# Altium integrated library WE-CBF (rev24a).IntLib: 180 symbols (part 1 of 4)
Pins are listed as number, name and electrical type; pins without a type are passive.

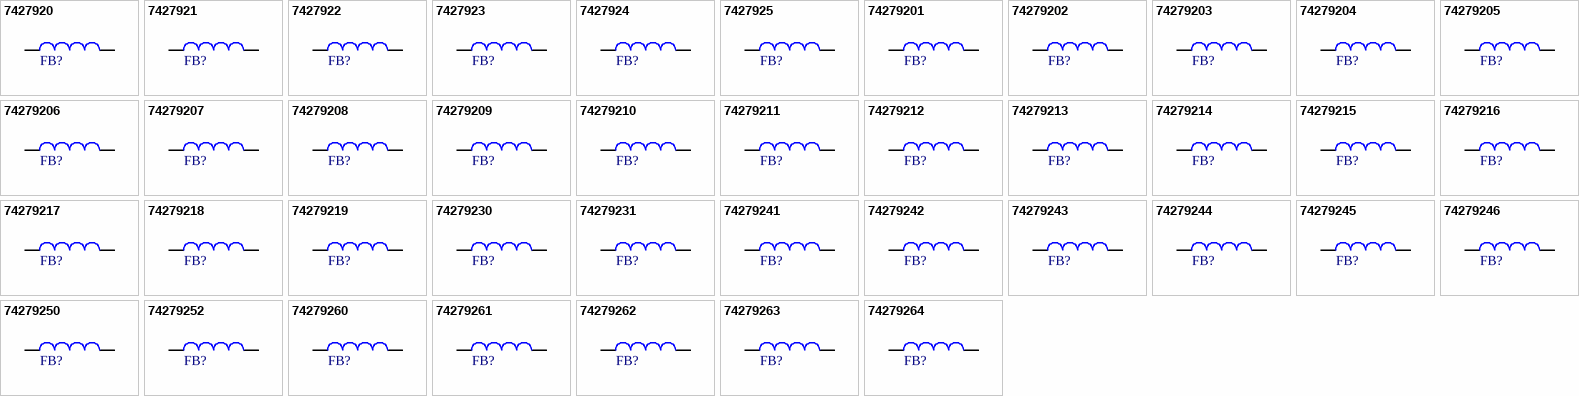
[diagram p0: symbols 7427920 to 74279264]

## 7427920
designator FB?, comment 11Ohm  (value not drawn)
WE-CBF SMT EMI Suppression Ferrite Bead, size 0805, 11Ohm, 9.6A; Manufacturer Part Number: 7427920; Manufacturer: Wurth Elektronik; Case/Size Code: 0805; DC Resistance Max: 0.15Ohm; Impedance Max: 24Ohm; Impedance Max Test Condition: 1000MHz; Type: High Speed; Category: Ferrites for PCB Assembly; Match Code: WE-CBF; ComponentLink1Description: Website Link; ComponentLink1URL: https://www.we-online.com/redexpert/article/7427920?ad; ComponentLink2Description: Datasheet Link; ComponentLink2URL: https://www.we-online.com/redexpert/spec/7427920?ad; Mount: Surface Mount; Operating Temperature Max: 125°C; Operating Temperature Min: -55°C; Packaging: Tape and Reel; Length: 2mm; Width: 1.2mm; Height: 0.9mm; Impedance @100MHz: 11Ohm; Rated Current: 9.6A
footprint WE-CBF_0805_L2W1.2H0.9_HS/WB
simulation model 0805_7427920_11ohm
pins: 1, 2

## 7427921
designator FB?, comment 32Ohm  (value not drawn)
WE-CBF SMT EMI Suppression Ferrite Bead, size 1206, 32Ohm, 8.1A; Manufacturer Part Number: 7427921; Manufacturer: Wurth Elektronik; Case/Size Code: 1206; DC Resistance Max: 0.2Ohm; Impedance Max: 70Ohm; Impedance Max Test Condition: 1000MHz; Type: High Speed; Category: Ferrites for PCB Assembly; Match Code: WE-CBF; ComponentLink1Description: Website Link; ComponentLink1URL: https://www.we-online.com/redexpert/article/7427921?ad; ComponentLink2Description: Datasheet Link; ComponentLink2URL: https://www.we-online.com/redexpert/spec/7427921?ad; Mount: Surface Mount; Operating Temperature Max: 125°C; Operating Temperature Min: -55°C; Packaging: Tape and Reel; Length: 3.2mm; Width: 1.6mm; Height: 1.1mm; Impedance @100MHz: 32Ohm; Rated Current: 8.1A
footprint WE-CBF_1206_L3.2W1.6H1.1_HS/WB
simulation model 1206_7427921_32ohm
pins: 1, 2

## 7427922
designator FB?, comment 60Ohm  (value not drawn)
WE-CBF SMT EMI Suppression Ferrite Bead, size 1206, 60Ohm, 5A; Manufacturer Part Number: 7427922; Manufacturer: Wurth Elektronik; Case/Size Code: 1206; DC Resistance Max: 0.2Ohm; Impedance Max: 120Ohm; Impedance Max Test Condition: 1000MHz; Type: High Speed; Category: Ferrites for PCB Assembly; Match Code: WE-CBF; ComponentLink1Description: Website Link; ComponentLink1URL: https://www.we-online.com/redexpert/article/7427922?ad; ComponentLink2Description: Datasheet Link; ComponentLink2URL: https://www.we-online.com/redexpert/spec/7427922?ad; Mount: Surface Mount; Operating Temperature Max: 125°C; Operating Temperature Min: -55°C; Packaging: Tape and Reel; Length: 3.2mm; Width: 1.6mm; Height: 1.1mm; Impedance @100MHz: 60Ohm; Rated Current: 5A
footprint WE-CBF_1206_L3.2W1.6H1.1_HS/WB
simulation model 1206_7427922_60ohm
pins: 1, 2

## 7427923
designator FB?, comment 90Ohm  (value not drawn)
WE-CBF SMT EMI Suppression Ferrite Bead, size 1210, 90Ohm, 3.4A; Manufacturer Part Number: 7427923; Manufacturer: Wurth Elektronik; Case/Size Code: 1210; DC Resistance Max: 0.3Ohm; Impedance Max: 180Ohm; Impedance Max Test Condition: 1000MHz; Type: High Speed; Category: Ferrites for PCB Assembly; Match Code: WE-CBF; ComponentLink1Description: Website Link; ComponentLink1URL: https://www.we-online.com/redexpert/article/7427923?ad; ComponentLink2Description: Datasheet Link; ComponentLink2URL: https://www.we-online.com/redexpert/spec/7427923?ad; Mount: Surface Mount; Operating Temperature Max: 125°C; Operating Temperature Min: -55°C; Packaging: Tape and Reel; Length: 3.2mm; Width: 2.5mm; Height: 1.3mm; Impedance @100MHz: 90Ohm; Rated Current: 3.4A
footprint WE-CBF_1210_L3.2W2.5H1.3_HS/WB
simulation model 1210_7427923_90ohm
pins: 1, 2

## 7427924
designator FB?, comment 60Ohm  (value not drawn)
WE-CBF SMT EMI Suppression Ferrite Bead, size 1806, 60Ohm, 7.1A; Manufacturer Part Number: 7427924; Manufacturer: Wurth Elektronik; Case/Size Code: 1806; DC Resistance Max: 0.3Ohm; Impedance Max: 130Ohm; Impedance Max Test Condition: 1000MHz; Type: High Speed; Category: Ferrites for PCB Assembly; Match Code: WE-CBF; ComponentLink1Description: Website Link; ComponentLink1URL: https://www.we-online.com/redexpert/article/7427924?ad; ComponentLink2Description: Datasheet Link; ComponentLink2URL: https://www.we-online.com/redexpert/spec/7427924?ad; Mount: Surface Mount; Operating Temperature Max: 125°C; Operating Temperature Min: -55°C; Packaging: Tape and Reel; Length: 4.5mm; Width: 1.6mm; Height: 1.6mm; Impedance @100MHz: 60Ohm; Rated Current: 7.1A
footprint WE-CBF_1806_L4.5W1.6H1.6_HS/WB
simulation model 1806_7427924_60ohm
pins: 1, 2

## 7427925
designator FB?, comment 120Ohm  (value not drawn)
WE-CBF SMT EMI Suppression Ferrite Bead, size 1812, 120Ohm, 6.8A; Manufacturer Part Number: 7427925; Manufacturer: Wurth Elektronik; Case/Size Code: 1812; DC Resistance Max: 0.3Ohm; Impedance Max: 200Ohm; Impedance Max Test Condition: 800MHz; Type: High Speed; Category: Ferrites for PCB Assembly; Match Code: WE-CBF; ComponentLink1Description: Website Link; ComponentLink1URL: https://www.we-online.com/redexpert/article/7427925?ad; ComponentLink2Description: Datasheet Link; ComponentLink2URL: https://www.we-online.com/redexpert/spec/7427925?ad; Mount: Surface Mount; Operating Temperature Max: 125°C; Operating Temperature Min: -55°C; Packaging: Tape and Reel; Length: 4.5mm; Width: 3.2mm; Height: 1.5mm; Impedance @100MHz: 120Ohm; Rated Current: 6.8A
footprint WE-CBF_1812_L4.5W3.2H1.5_HS/WB
simulation model 1812_7427925_120ohm
pins: 1, 2

## 74279201
designator FB?, comment 32Ohm  (value not drawn)
WE-CBF SMT EMI Suppression Ferrite Bead, size 0805, 32Ohm, 2.8A; Manufacturer Part Number: 74279201; Manufacturer: Wurth Elektronik; Case/Size Code: 0805; DC Resistance Max: 0.15Ohm; Impedance Max: 70Ohm; Impedance Max Test Condition: 1000MHz; Type: High Speed; Category: Ferrites for PCB Assembly; Match Code: WE-CBF; ComponentLink1Description: Website Link; ComponentLink1URL: https://www.we-online.com/redexpert/article/74279201?ad; ComponentLink2Description: Datasheet Link; ComponentLink2URL: https://www.we-online.com/redexpert/spec/74279201?ad; Mount: Surface Mount; Operating Temperature Max: 125°C; Operating Temperature Min: -55°C; Packaging: Tape and Reel; Length: 2mm; Width: 1.2mm; Height: 0.9mm; Impedance @100MHz: 32Ohm; Rated Current: 2.8A
footprint WE-CBF_0805_L2W1.2H0.9_HS/WB
simulation model 0805_74279201_32ohm
pins: 1, 2

## 74279202
designator FB?, comment 120Ohm  (value not drawn)
WE-CBF SMT EMI Suppression Ferrite Bead, size 0805, 120Ohm, 3.4A; Manufacturer Part Number: 74279202; Manufacturer: Wurth Elektronik; Case/Size Code: 0805; DC Resistance Max: 0.1Ohm; Impedance Max: 200Ohm; Impedance Max Test Condition: 400MHz; Type: High Speed; Category: Ferrites for PCB Assembly; Match Code: WE-CBF; ComponentLink1Description: Website Link; ComponentLink1URL: https://www.we-online.com/redexpert/article/74279202?ad; ComponentLink2Description: Datasheet Link; ComponentLink2URL: https://www.we-online.com/redexpert/spec/74279202?ad; Mount: Surface Mount; Operating Temperature Max: 125°C; Operating Temperature Min: -55°C; Packaging: Tape and Reel; Length: 2mm; Width: 1.2mm; Height: 0.9mm; Impedance @100MHz: 120Ohm; Rated Current: 3.4A
footprint WE-CBF_0805_L2W1.2H0.9_HS/WB
simulation model 0805_74279202_120ohm
pins: 1, 2

## 74279203
designator FB?, comment 150Ohm  (value not drawn)
WE-CBF SMT EMI Suppression Ferrite Bead, size 0805, 150Ohm, 2.4A; Manufacturer Part Number: 74279203; Manufacturer: Wurth Elektronik; Case/Size Code: 0805; DC Resistance Max: 0.25Ohm; Impedance Max: 250Ohm; Impedance Max Test Condition: 400MHz; Type: High Speed; Category: Ferrites for PCB Assembly; Match Code: WE-CBF; ComponentLink1Description: Website Link; ComponentLink1URL: https://www.we-online.com/redexpert/article/74279203?ad; ComponentLink2Description: Datasheet Link; ComponentLink2URL: https://www.we-online.com/redexpert/spec/74279203?ad; Mount: Surface Mount; Operating Temperature Max: 125°C; Operating Temperature Min: -55°C; Packaging: Tape and Reel; Length: 2mm; Width: 1.2mm; Height: 0.9mm; Impedance @100MHz: 150Ohm; Rated Current: 2.4A
footprint WE-CBF_0805_L2W1.2H0.9_HS/WB
simulation model 0805_74279203_150ohm
pins: 1, 2

## 74279204
designator FB?, comment 600Ohm  (value not drawn)
WE-CBF SMT EMI Suppression Ferrite Bead, size 0805, 600Ohm, 1.5A; Manufacturer Part Number: 74279204; Manufacturer: Wurth Elektronik; Case/Size Code: 0805; DC Resistance Max: 0.35Ohm; Impedance Max: 700Ohm; Impedance Max Test Condition: 150MHz; Type: Wide Band; Category: Ferrites for PCB Assembly; Match Code: WE-CBF; ComponentLink1Description: Website Link; ComponentLink1URL: https://www.we-online.com/redexpert/article/74279204?ad; ComponentLink2Description: Datasheet Link; ComponentLink2URL: https://www.we-online.com/redexpert/spec/74279204?ad; Mount: Surface Mount; Operating Temperature Max: 125°C; Operating Temperature Min: -55°C; Packaging: Tape and Reel; Length: 2mm; Width: 1.2mm; Height: 0.9mm; Impedance @100MHz: 600Ohm; Rated Current: 1.5A
footprint WE-CBF_0805_L2W1.2H0.9_HS/WB
simulation model 0805_74279204_600ohm
pins: 1, 2

## 74279205
designator FB?, comment 1000Ohm  (value not drawn)
WE-CBF SMT EMI Suppression Ferrite Bead, size 0805, 1000Ohm, 0.9A; Manufacturer Part Number: 74279205; Manufacturer: Wurth Elektronik; Case/Size Code: 0805; DC Resistance Max: 0.45Ohm; Impedance Max: 1050Ohm; Impedance Max Test Condition: 150MHz; Type: Wide Band; Category: Ferrites for PCB Assembly; Match Code: WE-CBF; ComponentLink1Description: Website Link; ComponentLink1URL: https://www.we-online.com/redexpert/article/74279205?ad; ComponentLink2Description: Datasheet Link; ComponentLink2URL: https://www.we-online.com/redexpert/spec/74279205?ad; Mount: Surface Mount; Operating Temperature Max: 125°C; Operating Temperature Min: -55°C; Packaging: Tape and Reel; Length: 2mm; Width: 1.2mm; Height: 0.9mm; Impedance @100MHz: 1000Ohm; Rated Current: 0.9A
footprint WE-CBF_0805_L2W1.2H0.9_HS/WB
simulation model 0805_74279205_1000ohm
pins: 1, 2

## 74279206
designator FB?, comment 30Ohm  (value not drawn)
WE-CBF SMT EMI Suppression Ferrite Bead, size 0805, 30Ohm, 3A; Manufacturer Part Number: 74279206; Manufacturer: Wurth Elektronik; Case/Size Code: 0805; DC Resistance Max: 0.025Ohm; Impedance Max: 55Ohm; Impedance Max Test Condition: 1000MHz; Type: High Current; Category: Ferrites for PCB Assembly; Match Code: WE-CBF; ComponentLink1Description: Website Link; ComponentLink1URL: https://www.we-online.com/redexpert/article/74279206?ad; ComponentLink2Description: Datasheet Link; ComponentLink2URL: https://www.we-online.com/redexpert/spec/74279206?ad; Mount: Surface Mount; Operating Temperature Max: 125°C; Operating Temperature Min: -55°C; Packaging: Tape and Reel; Length: 2mm; Width: 1.2mm; Height: 0.9mm; Impedance @100MHz: 30Ohm; Rated Current: 3A
footprint WE-CBF_0805_L2W1.2H0.9_HC
simulation model 0805_74279206_30ohm
pins: 1, 2

## 74279207
designator FB?, comment 100Ohm  (value not drawn)
WE-CBF SMT EMI Suppression Ferrite Bead, size 0805, 100Ohm, 1A; Manufacturer Part Number: 74279207; Manufacturer: Wurth Elektronik; Case/Size Code: 0805; DC Resistance Max: 0.15Ohm; Impedance Max: 140Ohm; Impedance Max Test Condition: 400MHz; Type: High Current; Category: Ferrites for PCB Assembly; Match Code: WE-CBF; ComponentLink1Description: Website Link; ComponentLink1URL: https://www.we-online.com/redexpert/article/74279207?ad; ComponentLink2Description: Datasheet Link; ComponentLink2URL: https://www.we-online.com/redexpert/spec/74279207?ad; Mount: Surface Mount; Operating Temperature Max: 125°C; Operating Temperature Min: -55°C; Packaging: Tape and Reel; Length: 2mm; Width: 1.2mm; Height: 0.9mm; Impedance @100MHz: 100Ohm; Rated Current: 1A
footprint WE-CBF_0805_L2W1.2H0.9_HC
simulation model 0805_74279207_100ohm
pins: 1, 2

## 74279208
designator FB?, comment 40Ohm  (value not drawn)
WE-CBF SMT EMI Suppression Ferrite Bead, size 0805, 40Ohm, 4.55A; Manufacturer Part Number: 74279208; Manufacturer: Wurth Elektronik; Case/Size Code: 0805; DC Resistance Max: 0.15Ohm; Impedance Max: 68Ohm; Impedance Max Test Condition: 1000MHz; Type: High Speed; Category: Ferrites for PCB Assembly; Match Code: WE-CBF; ComponentLink1Description: Website Link; ComponentLink1URL: https://www.we-online.com/redexpert/article/74279208?ad; ComponentLink2Description: Datasheet Link; ComponentLink2URL: https://www.we-online.com/redexpert/spec/74279208?ad; Mount: Surface Mount; Operating Temperature Max: 125°C; Operating Temperature Min: -55°C; Packaging: Tape and Reel; Length: 2mm; Width: 1.2mm; Height: 0.9mm; Impedance @100MHz: 40Ohm; Rated Current: 4.55A
footprint WE-CBF_0805_L2W1.2H0.9_HS/WB
simulation model 0805_74279208_40ohm
pins: 1, 2

## 74279209
designator FB?, comment 1200Ohm  (value not drawn)
WE-CBF SMT EMI Suppression Ferrite Bead, size 0805, 1200Ohm, 1.2A; Manufacturer Part Number: 74279209; Manufacturer: Wurth Elektronik; Case/Size Code: 0805; DC Resistance Max: 0.55Ohm; Impedance Max: 1400Ohm; Impedance Max Test Condition: 150MHz; Type: Wide Band; Category: Ferrites for PCB Assembly; Match Code: WE-CBF; ComponentLink1Description: Website Link; ComponentLink1URL: https://www.we-online.com/redexpert/article/74279209?ad; ComponentLink2Description: Datasheet Link; ComponentLink2URL: https://www.we-online.com/redexpert/spec/74279209?ad; Mount: Surface Mount; Operating Temperature Max: 125°C; Operating Temperature Min: -55°C; Packaging: Tape and Reel; Length: 2mm; Width: 1.2mm; Height: 0.9mm; Impedance @100MHz: 1200Ohm; Rated Current: 1.2A
footprint WE-CBF_0805_L2W1.2H0.9_HS/WB
simulation model 0805_74279209_1200ohm
pins: 1, 2

## 74279210
designator FB?, comment 30Ohm  (value not drawn)
WE-CBF SMT EMI Suppression Ferrite Bead, size 1206, 30Ohm, 3A; Manufacturer Part Number: 74279210; Manufacturer: Wurth Elektronik; Case/Size Code: 1206; DC Resistance Max: 0.04Ohm; Impedance Max: 52Ohm; Impedance Max Test Condition: 1000MHz; Type: High Current; Category: Ferrites for PCB Assembly; Match Code: WE-CBF; ComponentLink1Description: Website Link; ComponentLink1URL: https://www.we-online.com/redexpert/article/74279210?ad; ComponentLink2Description: Datasheet Link; ComponentLink2URL: https://www.we-online.com/redexpert/spec/74279210?ad; Mount: Surface Mount; Operating Temperature Max: 125°C; Operating Temperature Min: -55°C; Packaging: Tape and Reel; Length: 3.2mm; Width: 1.6mm; Height: 1.1mm; Impedance @100MHz: 30Ohm; Rated Current: 3A
footprint WE-CBF_1206_L3.2W1.6H1.1_HC
simulation model 1206_74279210_30ohm
pins: 1, 2

## 74279211
designator FB?, comment 90Ohm  (value not drawn)
WE-CBF SMT EMI Suppression Ferrite Bead, size 1206, 90Ohm, 3.6A; Manufacturer Part Number: 74279211; Manufacturer: Wurth Elektronik; Case/Size Code: 1206; DC Resistance Max: 0.3Ohm; Impedance Max: 170Ohm; Impedance Max Test Condition: 550MHz; Type: High Speed; Category: Ferrites for PCB Assembly; Match Code: WE-CBF; ComponentLink1Description: Website Link; ComponentLink1URL: https://www.we-online.com/redexpert/article/74279211?ad; ComponentLink2Description: Datasheet Link; ComponentLink2URL: https://www.we-online.com/redexpert/spec/74279211?ad; Mount: Surface Mount; Operating Temperature Max: 125°C; Operating Temperature Min: -55°C; Packaging: Tape and Reel; Length: 3.2mm; Width: 1.6mm; Height: 1.1mm; Impedance @100MHz: 90Ohm; Rated Current: 3.6A
footprint WE-CBF_1206_L3.2W1.6H1.1_HS/WB
simulation model 1206_74279211_90ohm
pins: 1, 2

## 74279212
designator FB?, comment 150Ohm  (value not drawn)
WE-CBF SMT EMI Suppression Ferrite Bead, size 1206, 150Ohm, 2.5A; Manufacturer Part Number: 74279212; Manufacturer: Wurth Elektronik; Case/Size Code: 1206; DC Resistance Max: 0.3Ohm; Impedance Max: 210Ohm; Impedance Max Test Condition: 280MHz; Type: High Speed; Category: Ferrites for PCB Assembly; Match Code: WE-CBF; ComponentLink1Description: Website Link; ComponentLink1URL: https://www.we-online.com/redexpert/article/74279212?ad; ComponentLink2Description: Datasheet Link; ComponentLink2URL: https://www.we-online.com/redexpert/spec/74279212?ad; Mount: Surface Mount; Operating Temperature Max: 125°C; Operating Temperature Min: -55°C; Packaging: Tape and Reel; Length: 3.2mm; Width: 1.6mm; Height: 1.1mm; Impedance @100MHz: 150Ohm; Rated Current: 2.5A
footprint WE-CBF_1206_L3.2W1.6H1.1_HS/WB
pins: 1, 2

## 74279213
designator FB?, comment 600Ohm  (value not drawn)
WE-CBF SMT EMI Suppression Ferrite Bead, size 1206, 600Ohm, 2.5A; Manufacturer Part Number: 74279213; Manufacturer: Wurth Elektronik; Case/Size Code: 1206; DC Resistance Max: 0.3Ohm; Impedance Max Test Condition: 100MHz; Type: Wide Band; Category: Ferrites for PCB Assembly; Match Code: WE-CBF; ComponentLink1Description: Website Link; ComponentLink1URL: https://www.we-online.com/redexpert/article/74279213?ad; ComponentLink2Description: Datasheet Link; ComponentLink2URL: https://www.we-online.com/redexpert/spec/74279213?ad; Mount: Surface Mount; Operating Temperature Max: 125°C; Operating Temperature Min: -55°C; Packaging: Tape and Reel; Length: 3.2mm; Width: 1.6mm; Height: 1.1mm; Impedance @100MHz: 600Ohm; Impedance Max: 600Ohm; Rated Current: 2.5A
footprint WE-CBF_1206_L3.2W1.6H1.1_HS/WB
simulation model 1206_74279213_600ohm
pins: 1, 2

## 74279214
designator FB?, comment 1000Ohm  (value not drawn)
WE-CBF SMT EMI Suppression Ferrite Bead, size 1206, 1000Ohm, 1.3A; Manufacturer Part Number: 74279214; Manufacturer: Wurth Elektronik; Case/Size Code: 1206; DC Resistance Max: 0.45Ohm; Impedance Max: 1250Ohm; Impedance Max Test Condition: 75MHz; Type: Wide Band; Category: Ferrites for PCB Assembly; Match Code: WE-CBF; ComponentLink1Description: Website Link; ComponentLink1URL: https://www.we-online.com/redexpert/article/74279214?ad; ComponentLink2Description: Datasheet Link; ComponentLink2URL: https://www.we-online.com/redexpert/spec/74279214?ad; Mount: Surface Mount; Operating Temperature Max: 125°C; Operating Temperature Min: -55°C; Packaging: Tape and Reel; Length: 3.2mm; Width: 1.6mm; Height: 1.1mm; Impedance @100MHz: 1000Ohm; Rated Current: 1.3A
footprint WE-CBF_1206_L3.2W1.6H1.1_HS/WB
simulation model 1206_74279214_1000ohm
pins: 1, 2

## 74279215
designator FB?, comment 80Ohm  (value not drawn)
WE-CBF SMT EMI Suppression Ferrite Bead, size 1206, 80Ohm, 3A; Manufacturer Part Number: 74279215; Manufacturer: Wurth Elektronik; Case/Size Code: 1206; DC Resistance Max: 0.03Ohm; Impedance Max: 110Ohm; Impedance Max Test Condition: 2000MHz; Type: High Current; Category: Ferrites for PCB Assembly; Match Code: WE-CBF; ComponentLink1Description: Website Link; ComponentLink1URL: https://www.we-online.com/redexpert/article/74279215?ad; ComponentLink2Description: Datasheet Link; ComponentLink2URL: https://www.we-online.com/redexpert/spec/74279215?ad; Mount: Surface Mount; Operating Temperature Max: 125°C; Operating Temperature Min: -55°C; Packaging: Tape and Reel; Length: 3.2mm; Width: 1.6mm; Height: 1.1mm; Impedance @100MHz: 80Ohm; Rated Current: 3A
footprint WE-CBF_1206_L3.2W1.6H1.1_HC
simulation model 1206_74279215_80ohm
pins: 1, 2

## 74279216
designator FB?, comment 1200Ohm  (value not drawn)
WE-CBF SMT EMI Suppression Ferrite Bead, size 1206, 1200Ohm, 1.3A; Manufacturer Part Number: 74279216; Manufacturer: Wurth Elektronik; Case/Size Code: 1206; DC Resistance Max: 0.5Ohm; Impedance Max: 1400Ohm; Impedance Max Test Condition: 70MHz; Type: Wide Band; Category: Ferrites for PCB Assembly; Match Code: WE-CBF; ComponentLink1Description: Website Link; ComponentLink1URL: https://www.we-online.com/redexpert/article/74279216?ad; ComponentLink2Description: Datasheet Link; ComponentLink2URL: https://www.we-online.com/redexpert/spec/74279216?ad; Mount: Surface Mount; Operating Temperature Max: 125°C; Operating Temperature Min: -55°C; Packaging: Tape and Reel; Length: 3.2mm; Width: 1.6mm; Height: 1.1mm; Impedance @100MHz: 1200Ohm; Rated Current: 1.3A
footprint WE-CBF_1206_L3.2W1.6H1.1_HS/WB
simulation model 1206_74279216_1200ohm
pins: 1, 2

## 74279217
designator FB?, comment 1000Ohm  (value not drawn)
WE-CBF SMT EMI Suppression Ferrite Bead, size 1206, 1000Ohm, 0.65A; Manufacturer Part Number: 74279217; Manufacturer: Wurth Elektronik; Case/Size Code: 1206; DC Resistance Max: 0.45Ohm; Impedance Max: 5000Ohm; Impedance Max Test Condition: 50MHz; Type: High Speed; Category: Ferrites for PCB Assembly; Match Code: WE-CBF; ComponentLink1Description: Website Link; ComponentLink1URL: https://www.we-online.com/redexpert/article/74279217?ad; ComponentLink2Description: Datasheet Link; ComponentLink2URL: https://www.we-online.com/redexpert/spec/74279217?ad; Mount: Surface Mount; Operating Temperature Max: 125°C; Operating Temperature Min: -55°C; Packaging: Tape and Reel; Length: 3.2mm; Width: 1.6mm; Height: 1.1mm; Impedance @100MHz: 1000Ohm; Rated Current: 0.65A
footprint WE-CBF_1206_L3.2W1.6H1.1_HS/WB
simulation model 1206_74279217_1000ohm
pins: 1, 2

## 74279218
designator FB?, comment 600Ohm  (value not drawn)
WE-CBF SMT EMI Suppression Ferrite Bead, size 1206, 600Ohm, 2A; Manufacturer Part Number: 74279218; Manufacturer: Wurth Elektronik; Case/Size Code: 1206; DC Resistance Max: 0.1Ohm; Impedance Max: 700Ohm; Impedance Max Test Condition: 90MHz; Type: High Current; Category: Ferrites for PCB Assembly; Match Code: WE-CBF; ComponentLink1Description: Website Link; ComponentLink1URL: https://www.we-online.com/redexpert/article/74279218?ad; ComponentLink2Description: Datasheet Link; ComponentLink2URL: https://www.we-online.com/redexpert/spec/74279218?ad; Mount: Surface Mount; Operating Temperature Max: 125°C; Operating Temperature Min: -55°C; Packaging: Tape and Reel; Length: 3.2mm; Width: 1.6mm; Height: 1.1mm; Impedance @100MHz: 600Ohm; Rated Current: 2A
footprint WE-CBF_1206_L3.2W1.6H1.1_HC
simulation model 1206_74279218_600ohm
pins: 1, 2

## 74279219
designator FB?, comment 700Ohm  (value not drawn)
WE-CBF SMT EMI Suppression Ferrite Bead, size 1206, 700Ohm, 0.45A; Manufacturer Part Number: 74279219; Manufacturer: Wurth Elektronik; Case/Size Code: 1206; DC Resistance Max: 0.65Ohm; Impedance Max: 2000Ohm; Impedance Max Test Condition: 30MHz; Type: Wide Band; Category: Ferrites for PCB Assembly; Match Code: WE-CBF; ComponentLink1Description: Website Link; ComponentLink1URL: https://www.we-online.com/redexpert/article/74279219?ad; ComponentLink2Description: Datasheet Link; ComponentLink2URL: https://www.we-online.com/redexpert/spec/74279219?ad; Mount: Surface Mount; Operating Temperature Max: 125°C; Operating Temperature Min: -55°C; Packaging: Tape and Reel; Length: 3.2mm; Width: 1.6mm; Height: 1.1mm; Impedance @100MHz: 700Ohm; Rated Current: 0.45A
footprint WE-CBF_1206_L3.2W1.6H1.1_HS/WB
simulation model 1206_74279219_700ohm
pins: 1, 2

## 74279230
designator FB?, comment 32Ohm  (value not drawn)
WE-CBF SMT EMI Suppression Ferrite Bead, size 1210, 32Ohm, 7.8A; Manufacturer Part Number: 74279230; Manufacturer: Wurth Elektronik; Case/Size Code: 1210; DC Resistance Max: 0.3Ohm; Impedance Max: 70Ohm; Impedance Max Test Condition: 1000MHz; Type: High Speed; Category: Ferrites for PCB Assembly; Match Code: WE-CBF; ComponentLink1Description: Website Link; ComponentLink1URL: https://www.we-online.com/redexpert/article/74279230?ad; ComponentLink2Description: Datasheet Link; ComponentLink2URL: https://www.we-online.com/redexpert/spec/74279230?ad; Mount: Surface Mount; Operating Temperature Max: 125°C; Operating Temperature Min: -55°C; Packaging: Tape and Reel; Length: 3.2mm; Width: 2.5mm; Height: 1.3mm; Impedance @100MHz: 32Ohm; Rated Current: 7.8A
footprint WE-CBF_1210_L3.2W2.5H1.3_HS/WB
simulation model 1210_74279230_32ohm
pins: 1, 2

## 74279231
designator FB?, comment 60Ohm  (value not drawn)
WE-CBF SMT EMI Suppression Ferrite Bead, size 1210, 60Ohm, 4.8A; Manufacturer Part Number: 74279231; Manufacturer: Wurth Elektronik; Case/Size Code: 1210; DC Resistance Max: 0.3Ohm; Impedance Max: 100Ohm; Impedance Max Test Condition: 1000MHz; Type: High Speed; Category: Ferrites for PCB Assembly; Match Code: WE-CBF; ComponentLink1Description: Website Link; ComponentLink1URL: https://www.we-online.com/redexpert/article/74279231?ad; ComponentLink2Description: Datasheet Link; ComponentLink2URL: https://www.we-online.com/redexpert/spec/74279231?ad; Mount: Surface Mount; Operating Temperature Max: 125°C; Operating Temperature Min: -55°C; Packaging: Tape and Reel; Length: 3.2mm; Width: 2.5mm; Height: 1.3mm; Impedance @100MHz: 60Ohm; Rated Current: 4.8A
footprint WE-CBF_1210_L3.2W2.5H1.3_HS/WB
simulation model 1210_74279231_60ohm
pins: 1, 2

## 74279241
designator FB?, comment 80Ohm  (value not drawn)
WE-CBF SMT EMI Suppression Ferrite Bead, size 1806, 80Ohm, 5A; Manufacturer Part Number: 74279241; Manufacturer: Wurth Elektronik; Case/Size Code: 1806; DC Resistance Max: 0.3Ohm; Impedance Max: 160Ohm; Impedance Max Test Condition: 1000MHz; Type: High Speed; Category: Ferrites for PCB Assembly; Match Code: WE-CBF; ComponentLink1Description: Website Link; ComponentLink1URL: https://www.we-online.com/redexpert/article/74279241?ad; ComponentLink2Description: Datasheet Link; ComponentLink2URL: https://www.we-online.com/redexpert/spec/74279241?ad; Mount: Surface Mount; Operating Temperature Max: 125°C; Operating Temperature Min: -55°C; Packaging: Tape and Reel; Length: 4.5mm; Width: 1.6mm; Height: 1.6mm; Impedance @100MHz: 80Ohm; Rated Current: 5A
footprint WE-CBF_1806_L4.5W1.6H1.6_HS/WB
simulation model 1806_74279241_80ohm
pins: 1, 2

## 74279242
designator FB?, comment 150Ohm  (value not drawn)
WE-CBF SMT EMI Suppression Ferrite Bead, size 1806, 150Ohm, 2A; Manufacturer Part Number: 74279242; Manufacturer: Wurth Elektronik; Case/Size Code: 1806; DC Resistance Max: 0.5Ohm; Impedance Max: 280Ohm; Impedance Max Test Condition: 500MHz; Type: Wide Band; Category: Ferrites for PCB Assembly; Match Code: WE-CBF; ComponentLink1Description: Website Link; ComponentLink1URL: https://www.we-online.com/redexpert/article/74279242?ad; ComponentLink2Description: Datasheet Link; ComponentLink2URL: https://www.we-online.com/redexpert/spec/74279242?ad; Mount: Surface Mount; Operating Temperature Max: 125°C; Operating Temperature Min: -55°C; Packaging: Tape and Reel; Length: 4.5mm; Width: 1.6mm; Height: 1.6mm; Impedance @100MHz: 150Ohm; Rated Current: 2A
footprint WE-CBF_1806_L4.5W1.6H1.6_HS/WB
simulation model 1806_74279242_150ohm
pins: 1, 2

## 74279243
designator FB?, comment 75Ohm  (value not drawn)
WE-CBF SMT EMI Suppression Ferrite Bead, size 1806, 75Ohm, 3A; Manufacturer Part Number: 74279243; Manufacturer: Wurth Elektronik; Case/Size Code: 1806; DC Resistance Max: 0.025Ohm; Impedance Max: 160Ohm; Impedance Max Test Condition: 1000MHz; Type: High Current; Category: Ferrites for PCB Assembly; Match Code: WE-CBF; ComponentLink1Description: Website Link; ComponentLink1URL: https://www.we-online.com/redexpert/article/74279243?ad; ComponentLink2Description: Datasheet Link; ComponentLink2URL: https://www.we-online.com/redexpert/spec/74279243?ad; Mount: Surface Mount; Operating Temperature Max: 125°C; Operating Temperature Min: -55°C; Packaging: Tape and Reel; Length: 4.5mm; Width: 1.6mm; Height: 1.6mm; Impedance @100MHz: 75Ohm; Rated Current: 3A
footprint WE-CBF_1806_L4.5W1.6H1.6_HC
simulation model 1806_74279243_75ohm
pins: 1, 2

## 74279244
designator FB?, comment 850Ohm  (value not drawn)
WE-CBF SMT EMI Suppression Ferrite Bead, size 1806, 850Ohm, 1.5A; Manufacturer Part Number: 74279244; Manufacturer: Wurth Elektronik; Case/Size Code: 1806; DC Resistance Max: 0.1Ohm; Impedance Max: 1250Ohm; Impedance Max Test Condition: 50MHz; Type: High Current; Category: Ferrites for PCB Assembly; Match Code: WE-CBF; ComponentLink1Description: Website Link; ComponentLink1URL: https://www.we-online.com/redexpert/article/74279244?ad; ComponentLink2Description: Datasheet Link; ComponentLink2URL: https://www.we-online.com/redexpert/spec/74279244?ad; Mount: Surface Mount; Operating Temperature Max: 125°C; Operating Temperature Min: -55°C; Packaging: Tape and Reel; Length: 4.5mm; Width: 1.6mm; Height: 1.6mm; Impedance @100MHz: 850Ohm; Rated Current: 1.5A
footprint WE-CBF_1806_L4.5W1.6H1.6_HC
simulation model 1806_74279244_850ohm
pins: 1, 2

## 74279245
designator FB?, comment 110Ohm  (value not drawn)
WE-CBF SMT EMI Suppression Ferrite Bead, size 1806, 110Ohm, 4A; Manufacturer Part Number: 74279245; Manufacturer: Wurth Elektronik; Case/Size Code: 1806; DC Resistance Max: 0.035Ohm; Impedance Max: 170Ohm; Impedance Max Test Condition: 600MHz; Type: High Current; Category: Ferrites for PCB Assembly; Match Code: WE-CBF; ComponentLink1Description: Website Link; ComponentLink1URL: https://www.we-online.com/redexpert/article/74279245?ad; ComponentLink2Description: Datasheet Link; ComponentLink2URL: https://www.we-online.com/redexpert/spec/74279245?ad; Mount: Surface Mount; Operating Temperature Max: 125°C; Operating Temperature Min: -55°C; Packaging: Tape and Reel; Length: 4.5mm; Width: 1.6mm; Height: 1.6mm; Impedance @100MHz: 110Ohm; Rated Current: 4A
footprint WE-CBF_1806_L4.5W1.6H1.6_HC
simulation model 1806_74279245_110ohm
pins: 1, 2

## 74279246
designator FB?, comment 1000Ohm  (value not drawn)
WE-CBF SMT EMI Suppression Ferrite Bead, size 1806, 1000Ohm, 1.5A; Manufacturer Part Number: 74279246; Manufacturer: Wurth Elektronik; Case/Size Code: 1806; DC Resistance Max: 0.09Ohm; Impedance Max: 1045Ohm; Impedance Max Test Condition: 85MHz; Type: Wide Band; Category: Ferrites for PCB Assembly; Match Code: WE-CBF; ComponentLink1Description: Website Link; ComponentLink1URL: https://www.we-online.com/redexpert/article/74279246?ad; ComponentLink2Description: Datasheet Link; ComponentLink2URL: https://www.we-online.com/redexpert/spec/74279246?ad; Mount: Surface Mount; Operating Temperature Max: 125°C; Operating Temperature Min: -55°C; Packaging: Tape and Reel; Length: 4.5mm; Width: 1.6mm; Height: 1.6mm; Impedance @100MHz: 1000Ohm; Rated Current: 1.5A
footprint WE-CBF_1806_L4.5W1.6H1.6_HS/WB
simulation model 1806_74279246_1000ohm
pins: 1, 2

## 74279250
designator FB?, comment 70Ohm  (value not drawn)
WE-CBF SMT EMI Suppression Ferrite Bead, size 1812, 70Ohm, 6A; Manufacturer Part Number: 74279250; Manufacturer: Wurth Elektronik; Case/Size Code: 1812; DC Resistance Max: 0.3Ohm; Impedance Max: 180Ohm; Impedance Max Test Condition: 1000MHz; Type: Wide Band; Category: Ferrites for PCB Assembly; Match Code: WE-CBF; ComponentLink1Description: Website Link; ComponentLink1URL: https://www.we-online.com/redexpert/article/74279250?ad; ComponentLink2Description: Datasheet Link; ComponentLink2URL: https://www.we-online.com/redexpert/spec/74279250?ad; Mount: Surface Mount; Operating Temperature Max: 125°C; Operating Temperature Min: -55°C; Packaging: Tape and Reel; Length: 4.5mm; Width: 3.2mm; Height: 1.5mm; Impedance @100MHz: 70Ohm; Rated Current: 6A
footprint WE-CBF_1812_L4.5W3.2H1.5_HS/WB
simulation model 1812_74279250_70ohm
pins: 1, 2

## 74279252
designator FB?, comment 880Ohm  (value not drawn)
WE-CBF SMT EMI Suppression Ferrite Bead, size 1812, 880Ohm, 4A; Manufacturer Part Number: 74279252; Manufacturer: Wurth Elektronik; Case/Size Code: 1812; DC Resistance Max: 0.035Ohm; Impedance Max: 940Ohm; Impedance Max Test Condition: 108MHz; Type: High Current; Category: Ferrites for PCB Assembly; Match Code: WE-CBF; ComponentLink1Description: Website Link; ComponentLink1URL: https://www.we-online.com/redexpert/article/74279252?ad; ComponentLink2Description: Datasheet Link; ComponentLink2URL: https://www.we-online.com/redexpert/spec/74279252?ad; Mount: Surface Mount; Operating Temperature Max: 125°C; Operating Temperature Min: -55°C; Packaging: Tape and Reel; Length: 4.5mm; Width: 3.2mm; Height: 1.5mm; Impedance @100MHz: 880Ohm; Rated Current: 4A
footprint WE-CBF_1812_L4.5W3.2H1.5_HC
simulation model 1812_74279252_880ohm
pins: 1, 2

## 74279260
designator FB?, comment 40Ohm  (value not drawn)
WE-CBF SMT EMI Suppression Ferrite Bead, size 0603, 40Ohm, 2.2A; Manufacturer Part Number: 74279260; Manufacturer: Wurth Elektronik; Case/Size Code: 0603; DC Resistance Max: 0.15Ohm; Impedance Max: 60Ohm; Impedance Max Test Condition: 1000MHz; Type: High Speed; Category: Ferrites for PCB Assembly; Match Code: WE-CBF; ComponentLink1Description: Website Link; ComponentLink1URL: https://www.we-online.com/redexpert/article/74279260?ad; ComponentLink2Description: Datasheet Link; ComponentLink2URL: https://www.we-online.com/redexpert/spec/74279260?ad; Mount: Surface Mount; Operating Temperature Max: 125°C; Operating Temperature Min: -55°C; Packaging: Tape and Reel; Length: 1.6mm; Width: 0.8mm; Height: 0.8mm; Impedance @100MHz: 40Ohm; Rated Current: 2.2A
footprint WE-CBF_0603_L1.6W0.8H0.8_HS/WB
simulation model 0603_74279260_40ohm
pins: 1, 2

## 74279261
designator FB?, comment 80Ohm  (value not drawn)
WE-CBF SMT EMI Suppression Ferrite Bead, size 0603, 80Ohm, 1A; Manufacturer Part Number: 74279261; Manufacturer: Wurth Elektronik; Case/Size Code: 0603; DC Resistance Max: 0.3Ohm; Impedance Max: 350Ohm; Impedance Max Test Condition: 650MHz; Type: High Speed; Category: Ferrites for PCB Assembly; Match Code: WE-CBF; ComponentLink1Description: Website Link; ComponentLink1URL: https://www.we-online.com/redexpert/article/74279261?ad; ComponentLink2Description: Datasheet Link; ComponentLink2URL: https://www.we-online.com/redexpert/spec/74279261?ad; Mount: Surface Mount; Operating Temperature Max: 125°C; Operating Temperature Min: -55°C; Packaging: Tape and Reel; Length: 1.6mm; Width: 0.8mm; Height: 0.8mm; Impedance @100MHz: 80Ohm; Rated Current: 1A
footprint WE-CBF_0603_L1.6W0.8H0.8_HS/WB
simulation model 0603_74279261_80ohm
pins: 1, 2

## 74279262
designator FB?, comment 120Ohm  (value not drawn)
WE-CBF SMT EMI Suppression Ferrite Bead, size 0603, 120Ohm, 1.35A; Manufacturer Part Number: 74279262; Manufacturer: Wurth Elektronik; Case/Size Code: 0603; DC Resistance Max: 0.3Ohm; Impedance Max: 200Ohm; Impedance Max Test Condition: 510MHz; Type: Wide Band; Category: Ferrites for PCB Assembly; Match Code: WE-CBF; ComponentLink1Description: Website Link; ComponentLink1URL: https://www.we-online.com/redexpert/article/74279262?ad; ComponentLink2Description: Datasheet Link; ComponentLink2URL: https://www.we-online.com/redexpert/spec/74279262?ad; Mount: Surface Mount; Operating Temperature Max: 125°C; Operating Temperature Min: -55°C; Packaging: Tape and Reel; Length: 1.6mm; Width: 0.8mm; Height: 0.8mm; Impedance @100MHz: 120Ohm; Rated Current: 1.35A
footprint WE-CBF_0603_L1.6W0.8H0.8_HS/WB
simulation model 0603_74279262_120ohm
pins: 1, 2

## 74279263
designator FB?, comment 220Ohm  (value not drawn)
WE-CBF SMT EMI Suppression Ferrite Bead, size 0603, 220Ohm, 1A; Manufacturer Part Number: 74279263; Manufacturer: Wurth Elektronik; Case/Size Code: 0603; DC Resistance Max: 0.3Ohm; Impedance Max: 280Ohm; Impedance Max Test Condition: 350MHz; Type: Wide Band; Category: Ferrites for PCB Assembly; Match Code: WE-CBF; ComponentLink1Description: Website Link; ComponentLink1URL: https://www.we-online.com/redexpert/article/74279263?ad; ComponentLink2Description: Datasheet Link; ComponentLink2URL: https://www.we-online.com/redexpert/spec/74279263?ad; Mount: Surface Mount; Operating Temperature Max: 125°C; Operating Temperature Min: -55°C; Packaging: Tape and Reel; Length: 1.6mm; Width: 0.8mm; Height: 0.8mm; Impedance @100MHz: 220Ohm; Rated Current: 1A
footprint WE-CBF_0603_L1.6W0.8H0.8_HS/WB
simulation model 0603_74279263_220ohm
pins: 1, 2

## 74279264
designator FB?, comment 300Ohm  (value not drawn)
WE-CBF SMT EMI Suppression Ferrite Bead, size 0603, 300Ohm, 1A; Manufacturer Part Number: 74279264; Manufacturer: Wurth Elektronik; Case/Size Code: 0603; DC Resistance Max: 0.35Ohm; Impedance Max: 500Ohm; Impedance Max Test Condition: 320MHz; Type: High Speed; Category: Ferrites for PCB Assembly; Match Code: WE-CBF; ComponentLink1Description: Website Link; ComponentLink1URL: https://www.we-online.com/redexpert/article/74279264?ad; ComponentLink2Description: Datasheet Link; ComponentLink2URL: https://www.we-online.com/redexpert/spec/74279264?ad; Mount: Surface Mount; Operating Temperature Max: 125°C; Operating Temperature Min: -55°C; Packaging: Tape and Reel; Length: 1.6mm; Width: 0.8mm; Height: 0.8mm; Impedance @100MHz: 300Ohm; Rated Current: 1A
footprint WE-CBF_0603_L1.6W0.8H0.8_HS/WB
simulation model 0603_74279264_300ohm
pins: 1, 2

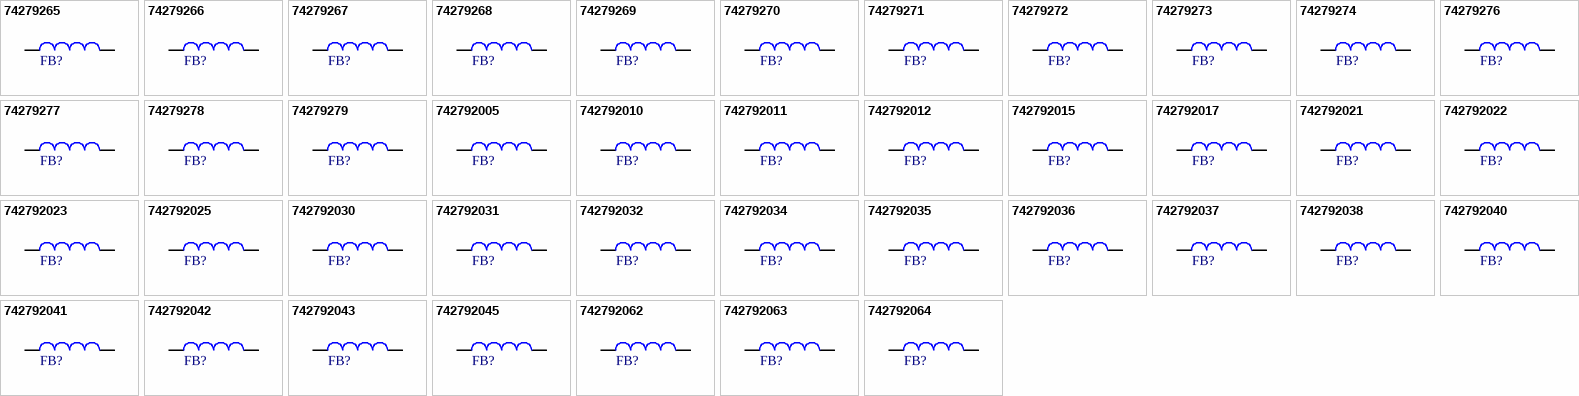
[diagram p1: symbols 74279265 to 742792064]

## 74279265
designator FB?, comment 600Ohm  (value not drawn)
WE-CBF SMT EMI Suppression Ferrite Bead, size 0603, 600Ohm, 0.85A; Manufacturer Part Number: 74279265; Manufacturer: Wurth Elektronik; Case/Size Code: 0603; DC Resistance Max: 0.45Ohm; Impedance Max: 720Ohm; Impedance Max Test Condition: 200MHz; Type: Wide Band; Category: Ferrites for PCB Assembly; Match Code: WE-CBF; ComponentLink1Description: Website Link; ComponentLink1URL: https://www.we-online.com/redexpert/article/74279265?ad; ComponentLink2Description: Datasheet Link; ComponentLink2URL: https://www.we-online.com/redexpert/spec/74279265?ad; Mount: Surface Mount; Operating Temperature Max: 125°C; Operating Temperature Min: -55°C; Packaging: Tape and Reel; Length: 1.6mm; Width: 0.8mm; Height: 0.8mm; Impedance @100MHz: 600Ohm; Rated Current: 0.85A
footprint WE-CBF_0603_L1.6W0.8H0.8_HS/WB
simulation model 0603_74279265_600ohm
pins: 1, 2

## 74279266
designator FB?, comment 1000Ohm  (value not drawn)
WE-CBF SMT EMI Suppression Ferrite Bead, size 0603, 1000Ohm, 0.65A; Manufacturer Part Number: 74279266; Manufacturer: Wurth Elektronik; Case/Size Code: 0603; DC Resistance Max: 0.6Ohm; Impedance Max: 1350Ohm; Impedance Max Test Condition: 140MHz; Type: Wide Band; Category: Ferrites for PCB Assembly; Match Code: WE-CBF; ComponentLink1Description: Website Link; ComponentLink1URL: https://www.we-online.com/redexpert/article/74279266?ad; ComponentLink2Description: Datasheet Link; ComponentLink2URL: https://www.we-online.com/redexpert/spec/74279266?ad; Mount: Surface Mount; Operating Temperature Max: 125°C; Operating Temperature Min: -55°C; Packaging: Tape and Reel; Length: 1.6mm; Width: 0.8mm; Height: 0.8mm; Impedance @100MHz: 1000Ohm; Rated Current: 0.65A
footprint WE-CBF_0603_L1.6W0.8H0.8_HS/WB
simulation model 0603_74279266_1000ohm
pins: 1, 2

## 74279267
designator FB?, comment 60Ohm  (value not drawn)
WE-CBF SMT EMI Suppression Ferrite Bead, size 0603, 60Ohm, 2A; Manufacturer Part Number: 74279267; Manufacturer: Wurth Elektronik; Case/Size Code: 0603; DC Resistance Max: 0.3Ohm; Impedance Max: 110Ohm; Impedance Max Test Condition: 650MHz; Type: High Speed; Category: Ferrites for PCB Assembly; Match Code: WE-CBF; ComponentLink1Description: Website Link; ComponentLink1URL: https://www.we-online.com/redexpert/article/74279267?ad; ComponentLink2Description: Datasheet Link; ComponentLink2URL: https://www.we-online.com/redexpert/spec/74279267?ad; Mount: Surface Mount; Operating Temperature Max: 125°C; Operating Temperature Min: -55°C; Packaging: Tape and Reel; Length: 1.6mm; Width: 0.8mm; Height: 0.8mm; Impedance @100MHz: 60Ohm; Rated Current: 2A
footprint WE-CBF_0603_L1.6W0.8H0.8_HS/WB
simulation model 0603_74279267_60ohm
pins: 1, 2

## 74279268
designator FB?, comment 15Ohm  (value not drawn)
WE-CBF SMT EMI Suppression Ferrite Bead, size 0603, 15Ohm, 1.9A; Manufacturer Part Number: 74279268; Manufacturer: Wurth Elektronik; Case/Size Code: 0603; DC Resistance Max: 0.1Ohm; Impedance Max: 60Ohm; Impedance Max Test Condition: 1000MHz; Type: High Speed; Category: Ferrites for PCB Assembly; Match Code: WE-CBF; ComponentLink1Description: Website Link; ComponentLink1URL: https://www.we-online.com/redexpert/article/74279268?ad; ComponentLink2Description: Datasheet Link; ComponentLink2URL: https://www.we-online.com/redexpert/spec/74279268?ad; Mount: Surface Mount; Operating Temperature Max: 125°C; Operating Temperature Min: -55°C; Packaging: Tape and Reel; Length: 1.6mm; Width: 0.8mm; Height: 0.8mm; Impedance @100MHz: 15Ohm; Rated Current: 1.9A
footprint WE-CBF_0603_L1.6W0.8H0.8_HS/WB
simulation model 0603_74279268_15ohm
pins: 1, 2

## 74279269
designator FB?, comment 1200Ohm  (value not drawn)
WE-CBF SMT EMI Suppression Ferrite Bead, size 0603, 1200Ohm, 0.65A; Manufacturer Part Number: 74279269; Manufacturer: Wurth Elektronik; Case/Size Code: 0603; DC Resistance Max: 0.7Ohm; Impedance Max: 1500Ohm; Impedance Max Test Condition: 150MHz; Type: Wide Band; Category: Ferrites for PCB Assembly; Match Code: WE-CBF; ComponentLink1Description: Website Link; ComponentLink1URL: https://www.we-online.com/redexpert/article/74279269?ad; ComponentLink2Description: Datasheet Link; ComponentLink2URL: https://www.we-online.com/redexpert/spec/74279269?ad; Mount: Surface Mount; Operating Temperature Max: 125°C; Operating Temperature Min: -55°C; Packaging: Tape and Reel; Length: 1.6mm; Width: 0.8mm; Height: 0.8mm; Impedance @100MHz: 1200Ohm; Rated Current: 0.65A
footprint WE-CBF_0603_L1.6W0.8H0.8_HS/WB
simulation model 0603_74279269_1200ohm
pins: 1, 2

## 74279270
designator FB?, comment 40Ohm  (value not drawn)
WE-CBF SMT EMI Suppression Ferrite Bead, size 0402, 40Ohm, 1.7A; Manufacturer Part Number: 74279270; Manufacturer: Wurth Elektronik; Case/Size Code: 0402; DC Resistance Max: 0.3Ohm; Impedance Max: 60Ohm; Impedance Max Test Condition: 800MHz; Type: Wide Band; Category: Ferrites for PCB Assembly; Match Code: WE-CBF; ComponentLink1Description: Website Link; ComponentLink1URL: https://www.we-online.com/redexpert/article/74279270?ad; ComponentLink2Description: Datasheet Link; ComponentLink2URL: https://www.we-online.com/redexpert/spec/74279270?ad; Mount: Surface Mount; Operating Temperature Max: 125°C; Operating Temperature Min: -55°C; Packaging: Tape and Reel; Length: 1mm; Width: 0.5mm; Height: 0.5mm; Impedance @100MHz: 40Ohm; Rated Current: 1.7A
footprint WE-CBF_0402_L1W0.5H0.5_HS/WB
simulation model 0402_74279270_40ohm
pins: 1, 2

## 74279271
designator FB?, comment 120Ohm  (value not drawn)
WE-CBF SMT EMI Suppression Ferrite Bead, size 0402, 120Ohm, 1.1A; Manufacturer Part Number: 74279271; Manufacturer: Wurth Elektronik; Case/Size Code: 0402; DC Resistance Max: 0.2Ohm; Impedance Max: 200Ohm; Impedance Max Test Condition: 600MHz; Type: Wide Band; Category: Ferrites for PCB Assembly; Match Code: WE-CBF; ComponentLink1Description: Website Link; ComponentLink1URL: https://www.we-online.com/redexpert/article/74279271?ad; ComponentLink2Description: Datasheet Link; ComponentLink2URL: https://www.we-online.com/redexpert/spec/74279271?ad; Mount: Surface Mount; Operating Temperature Max: 125°C; Operating Temperature Min: -55°C; Packaging: Tape and Reel; Length: 1mm; Width: 0.5mm; Height: 0.5mm; Impedance @100MHz: 120Ohm; Rated Current: 1.1A
footprint WE-CBF_0402_L1W0.5H0.5_HS/WB
simulation model 0402_74279271_120ohm
pins: 1, 2

## 74279272
designator FB?, comment 300Ohm  (value not drawn)
WE-CBF SMT EMI Suppression Ferrite Bead, size 0402, 300Ohm, 0.7A; Manufacturer Part Number: 74279272; Manufacturer: Wurth Elektronik; Case/Size Code: 0402; DC Resistance Max: 0.8Ohm; Impedance Max: 400Ohm; Impedance Max Test Condition: 380MHz; Type: Wide Band; Category: Ferrites for PCB Assembly; Match Code: WE-CBF; ComponentLink1Description: Website Link; ComponentLink1URL: https://www.we-online.com/redexpert/article/74279272?ad; ComponentLink2Description: Datasheet Link; ComponentLink2URL: https://www.we-online.com/redexpert/spec/74279272?ad; Mount: Surface Mount; Operating Temperature Max: 125°C; Operating Temperature Min: -55°C; Packaging: Tape and Reel; Length: 1mm; Width: 0.5mm; Height: 0.5mm; Impedance @100MHz: 300Ohm; Rated Current: 0.7A
footprint WE-CBF_0402_L1W0.5H0.5_HS/WB
simulation model 0402_74279272_300ohm
pins: 1, 2

## 74279273
designator FB?, comment 20Ohm  (value not drawn)
WE-CBF SMT EMI Suppression Ferrite Bead, size 0402, 20Ohm, 2A; Manufacturer Part Number: 74279273; Manufacturer: Wurth Elektronik; Case/Size Code: 0402; DC Resistance Max: 0.2Ohm; Impedance Max: 30Ohm; Impedance Max Test Condition: 600MHz; Type: High Speed; Category: Ferrites for PCB Assembly; Match Code: WE-CBF; ComponentLink1Description: Website Link; ComponentLink1URL: https://www.we-online.com/redexpert/article/74279273?ad; ComponentLink2Description: Datasheet Link; ComponentLink2URL: https://www.we-online.com/redexpert/spec/74279273?ad; Mount: Surface Mount; Operating Temperature Max: 125°C; Operating Temperature Min: -55°C; Packaging: Tape and Reel; Length: 1mm; Width: 0.5mm; Height: 0.5mm; Impedance @100MHz: 20Ohm; Rated Current: 2A
footprint WE-CBF_0402_L1W0.5H0.5_HS/WB
simulation model 0402_74279273_20ohm
pins: 1, 2

## 74279274
designator FB?, comment 30Ohm  (value not drawn)
WE-CBF SMT EMI Suppression Ferrite Bead, size 0402, 30Ohm, 1.6A; Manufacturer Part Number: 74279274; Manufacturer: Wurth Elektronik; Case/Size Code: 0402; DC Resistance Max: 0.25Ohm; Impedance Max: 43Ohm; Impedance Max Test Condition: 500MHz; Type: Wide Band; Category: Ferrites for PCB Assembly; Match Code: WE-CBF; ComponentLink1Description: Website Link; ComponentLink1URL: https://www.we-online.com/redexpert/article/74279274?ad; ComponentLink2Description: Datasheet Link; ComponentLink2URL: https://www.we-online.com/redexpert/spec/74279274?ad; Mount: Surface Mount; Operating Temperature Max: 125°C; Operating Temperature Min: -55°C; Packaging: Tape and Reel; Length: 1mm; Width: 0.5mm; Height: 0.5mm; Impedance @100MHz: 30Ohm; Rated Current: 1.6A
footprint WE-CBF_0402_L1W0.5H0.5_HS/WB
simulation model 0402_74279274_30ohm
pins: 1, 2

## 74279276
designator FB?, comment 60Ohm  (value not drawn)
WE-CBF SMT EMI Suppression Ferrite Bead, size 0402, 60Ohm, 1.25A; Manufacturer Part Number: 74279276; Manufacturer: Wurth Elektronik; Case/Size Code: 0402; DC Resistance Max: 0.35Ohm; Impedance Max: 84Ohm; Impedance Max Test Condition: 550MHz; Type: Wide Band; Category: Ferrites for PCB Assembly; Match Code: WE-CBF; ComponentLink1Description: Website Link; ComponentLink1URL: https://www.we-online.com/redexpert/article/74279276?ad; ComponentLink2Description: Datasheet Link; ComponentLink2URL: https://www.we-online.com/redexpert/spec/74279276?ad; Mount: Surface Mount; Operating Temperature Max: 125°C; Operating Temperature Min: -55°C; Packaging: Tape and Reel; Length: 1mm; Width: 0.5mm; Height: 0.5mm; Impedance @100MHz: 60Ohm; Rated Current: 1.25A
footprint WE-CBF_0402_L1W0.5H0.5_HS/WB
simulation model 0402_74279276_60ohm
pins: 1, 2

## 74279277
designator FB?, comment 70Ohm  (value not drawn)
WE-CBF SMT EMI Suppression Ferrite Bead, size 0402, 70Ohm, 0.8A; Manufacturer Part Number: 74279277; Manufacturer: Wurth Elektronik; Case/Size Code: 0402; DC Resistance Max: 0.15Ohm; Impedance Max: 91Ohm; Impedance Max Test Condition: 500MHz; Type: Wide Band; Category: Ferrites for PCB Assembly; Match Code: WE-CBF; ComponentLink1Description: Website Link; ComponentLink1URL: https://www.we-online.com/redexpert/article/74279277?ad; ComponentLink2Description: Datasheet Link; ComponentLink2URL: https://www.we-online.com/redexpert/spec/74279277?ad; Mount: Surface Mount; Operating Temperature Max: 125°C; Operating Temperature Min: -55°C; Packaging: Tape and Reel; Length: 1mm; Width: 0.5mm; Height: 0.5mm; Impedance @100MHz: 70Ohm; Rated Current: 0.8A
footprint WE-CBF_0402_L1W0.5H0.5_HS/WB
simulation model 0402_74279277_70ohm
pins: 1, 2

## 74279278
designator FB?, comment 240Ohm  (value not drawn)
WE-CBF SMT EMI Suppression Ferrite Bead, size 0402, 240Ohm, 0.71A; Manufacturer Part Number: 74279278; Manufacturer: Wurth Elektronik; Case/Size Code: 0402; DC Resistance Max: 0.7Ohm; Impedance Max: 290Ohm; Impedance Max Test Condition: 350MHz; Type: Wide Band; Category: Ferrites for PCB Assembly; Match Code: WE-CBF; ComponentLink1Description: Website Link; ComponentLink1URL: https://www.we-online.com/redexpert/article/74279278?ad; ComponentLink2Description: Datasheet Link; ComponentLink2URL: https://www.we-online.com/redexpert/spec/74279278?ad; Mount: Surface Mount; Operating Temperature Max: 125°C; Operating Temperature Min: -55°C; Packaging: Tape and Reel; Length: 1mm; Width: 0.5mm; Height: 0.5mm; Impedance @100MHz: 240Ohm; Rated Current: 0.71A
footprint WE-CBF_0402_L1W0.5H0.5_HS/WB
simulation model 0402_74279278_240ohm
pins: 1, 2

## 74279279
designator FB?, comment 600Ohm  (value not drawn)
WE-CBF SMT EMI Suppression Ferrite Bead, size 0402, 600Ohm, 0.55A; Manufacturer Part Number: 74279279; Manufacturer: Wurth Elektronik; Case/Size Code: 0402; DC Resistance Max: 1Ohm; Impedance Max: 660Ohm; Impedance Max Test Condition: 180MHz; Type: Wide Band; Category: Ferrites for PCB Assembly; Match Code: WE-CBF; ComponentLink1Description: Website Link; ComponentLink1URL: https://www.we-online.com/redexpert/article/74279279?ad; ComponentLink2Description: Datasheet Link; ComponentLink2URL: https://www.we-online.com/redexpert/spec/74279279?ad; Mount: Surface Mount; Operating Temperature Max: 125°C; Operating Temperature Min: -55°C; Packaging: Tape and Reel; Length: 1mm; Width: 0.5mm; Height: 0.5mm; Impedance @100MHz: 600Ohm; Rated Current: 0.55A
footprint WE-CBF_0402_L1W0.5H0.5_HS/WB
simulation model 0402_74279279_600ohm
pins: 1, 2